# EAGLE library part 19-337C/RSBHGHC-A88/4T (library 19-337C_RSBHGHC-A88_4T)
Red, Green, Blue (RGB) 625nm Red, 530nm Green, 470nm Blue LED Indication - Discrete 2.05V Red, 2.9V Green, 2.9V Blue 0606 (1616 Metric) Check availability <https://pricing.snapeda.com/parts/19-337C/RSBHGHC-A88/4T/Everlight%20Electronics%20Co%20Ltd/view-part?ref=eda>
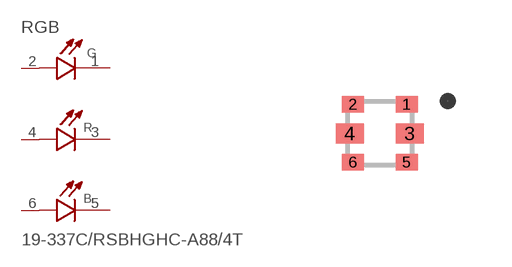
[diagram p0: symbol with the pads of LED_19-337C/RSBHGHC-A88/4T; footprint LED_19-337C/RSBHGHC-A88/4T]

Designator prefix RGB

## 19-337C/RSBHGHC-A88/4T (AVAILABILITY: In Stock; DESCRIPTION: Red, Green, Blue (RGB) 625nm Red, 530nm Green, 470nm Blue LED Indication - Discrete 2.05V Red, 2.9V Green, 2.9V Blue 0606 (1616 Metric); MF: Everlight Electronics Co Ltd; MP: 19-337C/RSBHGHC-A88/4T; PACKAGE: 0606 Everlight Electronics Co Ltd; PRICE: None; PURCHASE-URL: https://pricing.snapeda.com/search/part/19-337C/RSBHGHC-A88/4T/?ref=eda)  [LED_19-337C/RSBHGHC-A88/4T]
1  G_C  pas
2  G_A  pas
3  R_C  pas
4  R_A  pas
5  B_C  pas
6  B_A  pas

## Footprint LED_19-337C/RSBHGHC-A88/4T (pad centres in mm)
smd 0.55 x 0.4: 1 0.675,0.725; 2 -0.675,0.725; 5 0.675,-0.725; 6 -0.675,-0.725
smd 0.7 x 0.5: 3 0.75,0; 4 -0.75,0